# Altium integrated library HTLinn_PowerSupply.IntLib: 12 symbols
Pins are listed as number, name and electrical type; pins without a type are passive.

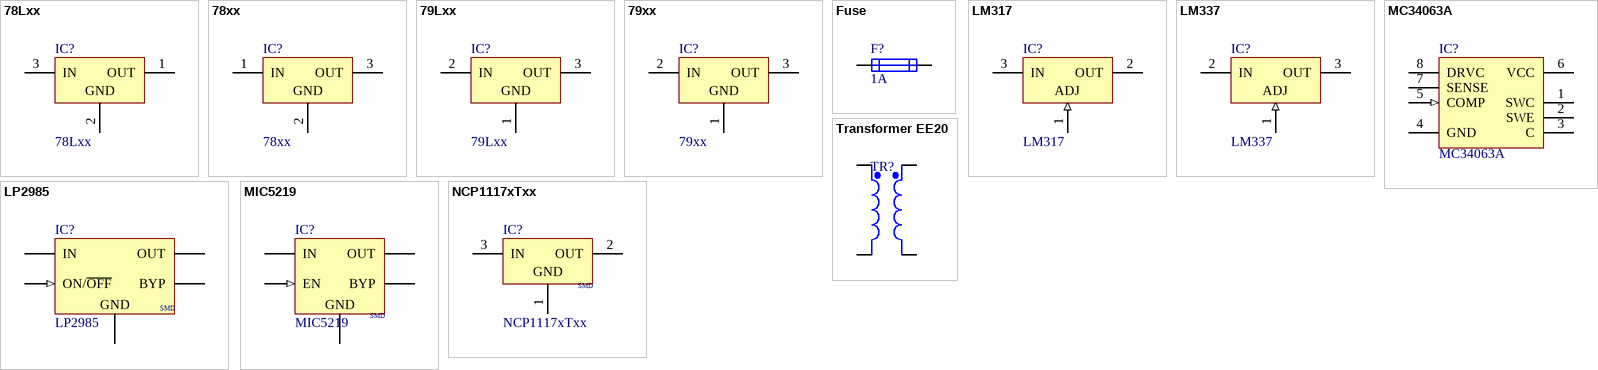
[diagram p0: symbols 78Lxx to Transformer EE20]

## 78Lxx
designator IC?
Positive-Voltage Regulator (max. 100mA); SimulationModellSource: <no appropriate Sim-Modell found>; Usage: only permitted for non-commercial purposes at HTL I Innsbruck; Published: 21-Feb-2011; LatestRevisionDate: 31-Oct-2012
footprint TO-92-1 (TO-92)
footprint TO-92-2 (TO-92)
footprint TO-92-3 (TO-92)
pins: 1 OUT (power), 2 GND (power), 3 IN (power)

## 78xx
designator IC?
Positive-Voltage Regulator; SimulationModellSource: <no Sim-Modell found so far>; Usage: only permitted for non-commercial purposes at HTL I Innsbruck; Published: 21-Feb-2011; LatestRevisionDate: 31-Oct-2012
footprint TO-220 (TO, Thru-Hole, Vertical, Heatsink Mounted; 3 In-Line Leads; Pitch 2.54 mm)
footprint TO-220AB - Horizontal (TO, Thru-Hole, Horizontal, Heatsink Mounted; 3 In-Line Leads; Pitch 2.54 mm)
footprint TO-220AB - Horizontal - with heatsink (TO, Thru-Hole, Horizontal, Heatsink Mounted; 3 In-Line Leads; Pitch 2.54 mm)
pins: 1 IN (power), 2 GND (power), 3 OUT (power)

## 79Lxx
designator IC?
Negative-Voltage Regulator (max. 100mA); SimulationModellSource: <no Sim-Modell found so far>; Usage: only permitted for non-commercial purposes at HTL I Innsbruck; Published: 21-Feb-2011; LatestRevisionDate: 31-Oct-2012
footprint TO-92-1 (TO-92)
footprint TO-92-2 (TO-92)
footprint TO-92-3 (TO-92)
pins: 1 GND (power), 2 IN (power), 3 OUT (power)

## 79xx
designator IC?
Negative-Voltage Regulator; SimulationModellSource: <no Sim-Modell found so far>; Usage: only permitted for non-commercial purposes at HTL I Innsbruck; Published: 21-Feb-2011; LatestRevisionDate: 31-Oct-2012
footprint TO-220 (TO, Thru-Hole, Vertical, Heatsink Mounted; 3 In-Line Leads; Pitch 2.54 mm)
footprint TO-220AB - Horizontal (TO, Thru-Hole, Horizontal, Heatsink Mounted; 3 In-Line Leads; Pitch 2.54 mm)
footprint TO-220AB - Horizontal - with heatsink (TO, Thru-Hole, Horizontal, Heatsink Mounted; 3 In-Line Leads; Pitch 2.54 mm)
pins: 1 GND (power), 2 IN (power), 3 OUT (power)

## Fuse
designator F?, comment 1A
Fuse; Usage: only permitted for non-commercial purposes at HTL I Innsbruck; SimulationModellSource: Miscellaneous Devices (Altium); Published: 21-Feb-2011; LatestRevisionDate: 07-Sep-2019; Current: 1A
simulation model FUSE (Spice Subcircuit)
footprint FUSE_HOLDER_5X20MM (Fuse Holder for 5x20 mm fuses, RM6 (15.24mm))
footprint FUSE_HOLDER_SHK20L (Fuse Holder for 5x20 mm fuses, SH contact)
footprint FUSE_HOLDER_SHK20Q (Fuse Holder for 5x20 mm fuses, SH contact)
footprint FUSE_TR5 (TR5 Fuse, grid 5.08mm (RM 2))
footprint FUSE_HOLDER_TR5 (TR5 Fuse Holder)
pins: 1, 2

## LM317
designator IC?
3-Terminal Adjustable Regulator (positive); SimulationModellSource: <no Sim-Modell found so far>; Usage: only permitted for non-commercial purposes at HTL I Innsbruck; Published: 21-Feb-2011; LatestRevisionDate: 31-Oct-2012
footprint TO-220 (TO, Thru-Hole, Vertical, Heatsink Mounted; 3 In-Line Leads; Pitch 2.54 mm)
footprint TO-220AB - Horizontal (TO, Thru-Hole, Horizontal, Heatsink Mounted; 3 In-Line Leads; Pitch 2.54 mm)
footprint TO-220AB - Horizontal - with heatsink (TO, Thru-Hole, Horizontal, Heatsink Mounted; 3 In-Line Leads; Pitch 2.54 mm)
pins: 1 ADJ (in), 2 OUT (power), 3 IN (power)

## LM337
designator IC?
3-Terminal Adjustable Regulator (negative); SimulationModellSource: <no Sim-Modell found so far>; Usage: only permitted for non-commercial purposes at HTL I Innsbruck; Published: 21-Feb-2011; LatestRevisionDate: 31-Oct-2012
footprint TO-220 (TO, Thru-Hole, Vertical, Heatsink Mounted; 3 In-Line Leads; Pitch 2.54 mm)
footprint TO-220AB - Horizontal (TO, Thru-Hole, Horizontal, Heatsink Mounted; 3 In-Line Leads; Pitch 2.54 mm)
footprint TO-220AB - Horizontal - with heatsink (TO, Thru-Hole, Horizontal, Heatsink Mounted; 3 In-Line Leads; Pitch 2.54 mm)
pins: 1 ADJ (in), 2 IN (power), 3 OUT (power)

## LP2985
designator IC?
150-mA Low-noise Low-dropout Regulator With Shutdown; SimulationModellSource: <no appropriate Sim-Modell found>; Usage: only permitted for non-commercial purposes at HTL I Innsbruck; Published: 04-Jan-2018; LatestRevisionDate: 04-Jan-2018
footprint SOT-23-5_L (SOT23, 5-Leads, Body 2.9x1.6mm, Pitch 0.95mm, Lead Span 2.8mm, IPC High Density)
footprint SOT-23-5_M (SOT23, 5-Leads, Body 2.9x1.6mm, Pitch 0.95mm, Lead Span 2.8mm, IPC Low Density)
footprint SOT-23-5_N (SOT23, 5-Leads, Body 2.9x1.6mm, Pitch 0.95mm, Lead Span 2.8mm, IPC Medium Density)
pins: 1 IN (power), 2 GND (power), 3 ON/~{OFF} (in), 4 BYP, 5 OUT (power)
text: SMD

## MC34063A
designator IC?
DC-to-DC Converter Control Circuit; Usage: only permitted for non-commercial purposes at HTL I Innsbruck; SimulationModellSource: <no SimModell found so far>; Published: 21-Feb-2011; LatestRevisionDate: 31-Oct-2012
footprint DIL08 (Dual In Line Package)
pins: 1 SWC (oc), 2 SWE (oe), 3 C, 4 GND (power), 5 COMP (in), 6 VCC (power), 7 SENSE, 8 DRVC (oc)

## MIC5219
designator IC?
Micrel LDO Regulator (500mA-peak); SimulationModellSource: <no appropriate Sim-Modell found>; Usage: only permitted for non-commercial purposes at HTL I Innsbruck; Published: 21-Mar-2015; LatestRevisionDate: 21-Mar-2015
footprint SOT-23-5_L (SOT23, 5-Leads, Body 2.9x1.6mm, Pitch 0.95mm, Lead Span 2.8mm, IPC High Density)
footprint SOT-23-5_M (SOT23, 5-Leads, Body 2.9x1.6mm, Pitch 0.95mm, Lead Span 2.8mm, IPC Low Density)
footprint SOT-23-5_N (SOT23, 5-Leads, Body 2.9x1.6mm, Pitch 0.95mm, Lead Span 2.8mm, IPC Medium Density)
pins: 1 IN (power), 2 GND (power), 3 EN (in), 4 BYP, 5 OUT (power)
text: SMD

## NCP1117xTxx
designator IC?
1.0 A Low-Dropout Positive Fixed Voltage Regulator; SimulationModellSource: <no appropriate Sim-Modell found>; Usage: only permitted for non-commercial purposes at HTL I Innsbruck; Published: 04-Jan-2018; LatestRevisionDate: 04-Jan-2018
footprint SOT-223 (SOT-223 for NCP1117 regulator (heatsink tab connected with pin2))
pins: 1 GND (power), 2 OUT (power), 3 IN (power)
text: SMD

## Transformer EE20
designator TR?  (value not drawn)
SimulationModellSource: Altium Limited; RATIO: 0.1; Published: 19-Nov-2012; LatestRevisionDate: 07-Sep-2019
footprint TRF_EE20 (Transformer EE20 (1 prim, 1 sec)); pin to pad 1>4 2>1 3>6 4>7
simulation model TRANS (Generic Transformer - adapt RATIO !)
pins: 1 Pri+, 2 Pri-, 3 Sec+, 4 Sec-